# Altium footprint library PCB - LEADLESS - QFN50P800X800X100-57N.PCBLIB: 1 footprints
Each footprint in its own frame and in the unit in brackets; x right, y up, seen from the top. Pads: shape width x height; smd on the part's side, far side on the other; paste and mask are expansions set on the pad; w line width, h text height; cw(c..) or ccw(c..) is an arc to the next point about the centre after c.
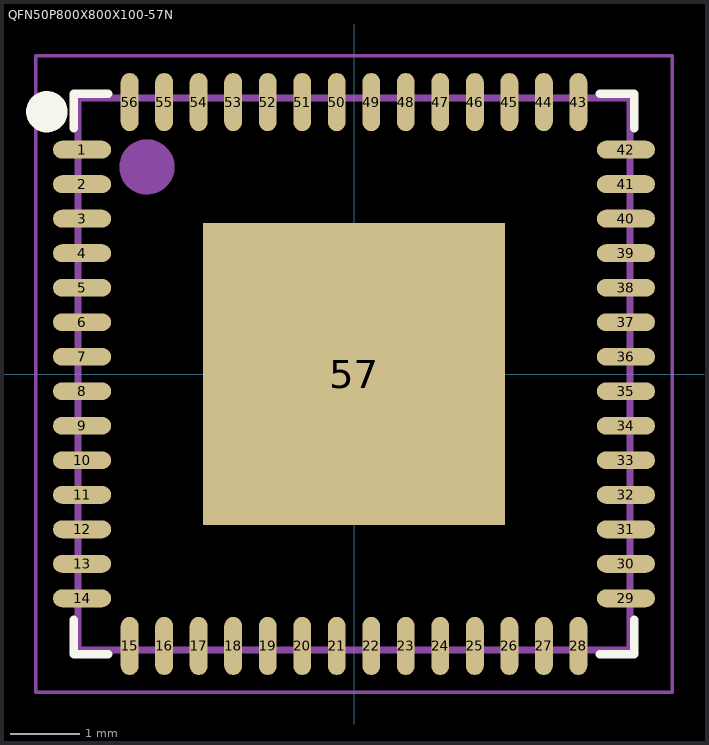
[diagram p0: the footprint, top view; thin cyan lines are the x and y axes]

## QFN50P800X800X100-57N [mm]
height 1
pads (57):
  oval 0.84x0.26 smd: 1(-3.94,3.25) 2(-3.94,2.75) 3(-3.94,2.25) 4(-3.94,1.75) 5(-3.94,1.25) 6(-3.94,0.75) 7(-3.94,0.25) 8(-3.94,-0.25) 9(-3.94,-0.75) 10(-3.94,-1.25) 11(-3.94,-1.75) 12(-3.94,-2.25) 13(-3.94,-2.75) 14(-3.94,-3.25) 29(3.94,-3.25) 30(3.94,-2.75) 31(3.94,-2.25) 32(3.94,-1.75) 33(3.94,-1.25) 34(3.94,-0.75) 35(3.94,-0.25) 36(3.94,0.25) 37(3.94,0.75) 38(3.94,1.25) 39(3.94,1.75) 40(3.94,2.25) 41(3.94,2.75) 42(3.94,3.25)
  oval 0.26x0.84 smd: 15(-3.25,-3.94) 16(-2.75,-3.94) 17(-2.25,-3.94) 18(-1.75,-3.94) 19(-1.25,-3.94) 20(-0.75,-3.94) 21(-0.25,-3.94) 22(0.25,-3.94) 23(0.75,-3.94) 24(1.25,-3.94) 25(1.75,-3.94) 26(2.25,-3.94) 27(2.75,-3.94) 28(3.25,-3.94) 43(3.25,3.94) 44(2.75,3.94) 45(2.25,3.94) 46(1.75,3.94) 47(1.25,3.94) 48(0.75,3.94) 49(0.25,3.94) 50(-0.25,3.94) 51(-0.75,3.94) 52(-1.25,3.94) 53(-1.75,3.94) 54(-2.25,3.94) 55(-2.75,3.94) 56(-3.25,3.94)
  rect 4.37x4.37 smd: 57(0,0)
Top Overlay:
  circle w0.3: c-4.45,3.8 r0.15
  lines w0.12: -4.06,-3.56 -4.06,-4.06 -3.56,-4.06 ; -4.06,3.56 -4.06,4.06 -3.56,4.06 ; 3.56,-4.06 4.06,-4.06 4.06,-3.56 ; 3.56,4.06 4.06,4.06 4.06,3.56
Top Paste:
  region: -1.86,-1.86 -0.32,-1.86 -0.32,-0.32 -1.86,-0.32
  region: 0.32,-1.86 1.86,-1.86 1.86,-0.32 0.32,-0.32
  region: -1.86,0.32 -0.32,0.32 -0.32,1.86 -1.86,1.86
  region: 0.32,0.32 1.86,0.32 1.86,1.86 0.32,1.86
Top Assembly:
  circle w0.4: c-3,3 r0.2
  lines w0.1: -4,-4 -4,4 4,4 4,-4 -4,-4
Top Courtyard:
  lines w0.05: -4.61,-4.61 -4.61,4.61 4.61,4.61 4.61,-4.61 -4.61,-4.61
Top Designator:
  text ".Designator" at -2.3,-0.825 h1.52
Top Component Center:
  lines w0.05: -0.35,0 0.35,0 ; 0,-0.35 0,0.35
3D body "User Library-QFN56 (8x8).STEP": height 0.94, standoff -0.01, extent -4.015,-4.015 4.015,4.015